# EAGLE library part FT232RL-REEL (library FT232RL-REEL)
USB Full Speed to Serial UART IC, Includes Oscillator and EEPROM - SSOP-28 Check availability <https://pricing.snapeda.com/parts/FT232RL-REEL/FTDI%2C/view-part?ref=eda>
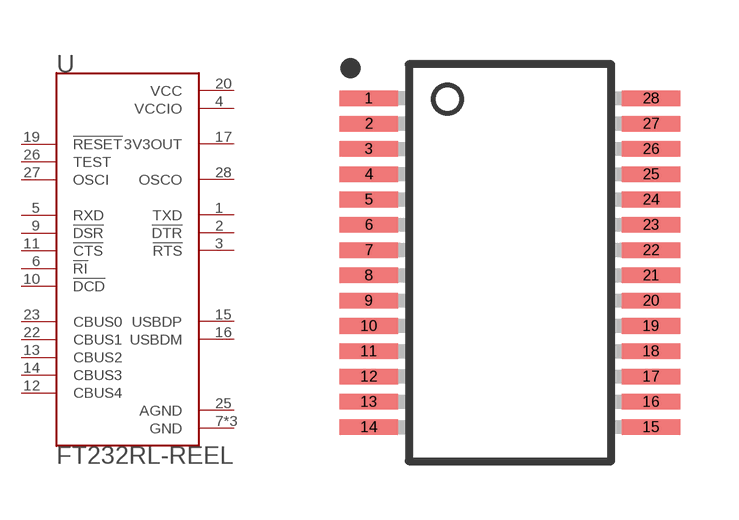
[diagram p0: symbol with the pads of SOP65P780X200-28N; footprint SOP65P780X200-28N]

Designator prefix U

## FT232RL-REEL (Availability: In Stock; Check_prices: https://www.snapeda.com/parts/FT232RL-REEL/FTDI%252C+Future+Technology+Devices+International+Ltd/view-part/?ref=eda; Description: USB Bridge, USB to UART USB 2.0 UART Interface 28-SSOP; MF: FTDI,; MP: FT232RL-REEL; Package: SSOP-28 FTDI; Price: None; Purchase-URL: https://pricing.snapeda.com/search?q=FT232RL-REEL&ref=eda; SnapEDA_Link: https://www.snapeda.com/parts/FT232RL-REEL/FTDI%252C+Future+Technology+Devices+International+Ltd/view-part/?ref=snap)  [SOP65P780X200-28N]
1  TXD  out
2  !DTR  out
3  !RTS  out
4  VCCIO  pwr
5  RXD  in
6  !RI  in
7  GND  pwr
9  !DSR  in
10  !DCD  in
11  !CTS  in
12  CBUS4
13  CBUS2
14  CBUS3
15  USBDP
16  USBDM
17  3V3OUT  out
18  GND  pwr
19  !RESET  in
20  VCC  pwr
21  GND  pwr
22  CBUS1
23  CBUS0
25  AGND  pwr
26  TEST  in
27  OSCI  in
28  OSCO  out

## Footprint SOP65P780X200-28N (pad centres in mm)
smd 1.5 x 0.4: 1 -3.625,4.225; 2 -3.625,3.575; 3 -3.625,2.925; 4 -3.625,2.275; 5 -3.625,1.625; 6 -3.625,0.975; 7 -3.625,0.325; 8 -3.625,-0.325; 9 -3.625,-0.975; 10 -3.625,-1.625; 11 -3.625,-2.275; 12 -3.625,-2.925; 13 -3.625,-3.575; 14 -3.625,-4.225; 15 3.625,-4.225; 16 3.625,-3.575; 17 3.625,-2.925; 18 3.625,-2.275; 19 3.625,-1.625; 20 3.625,-0.975; 21 3.625,-0.325; 22 3.625,0.325; 23 3.625,0.975; 24 3.625,1.625; 25 3.625,2.275; 26 3.625,2.925; 27 3.625,3.575; 28 3.625,4.225